# Altium integrated library National Semiconductor MiscPower.IntLib: 1552 symbols (part 16 of 43)
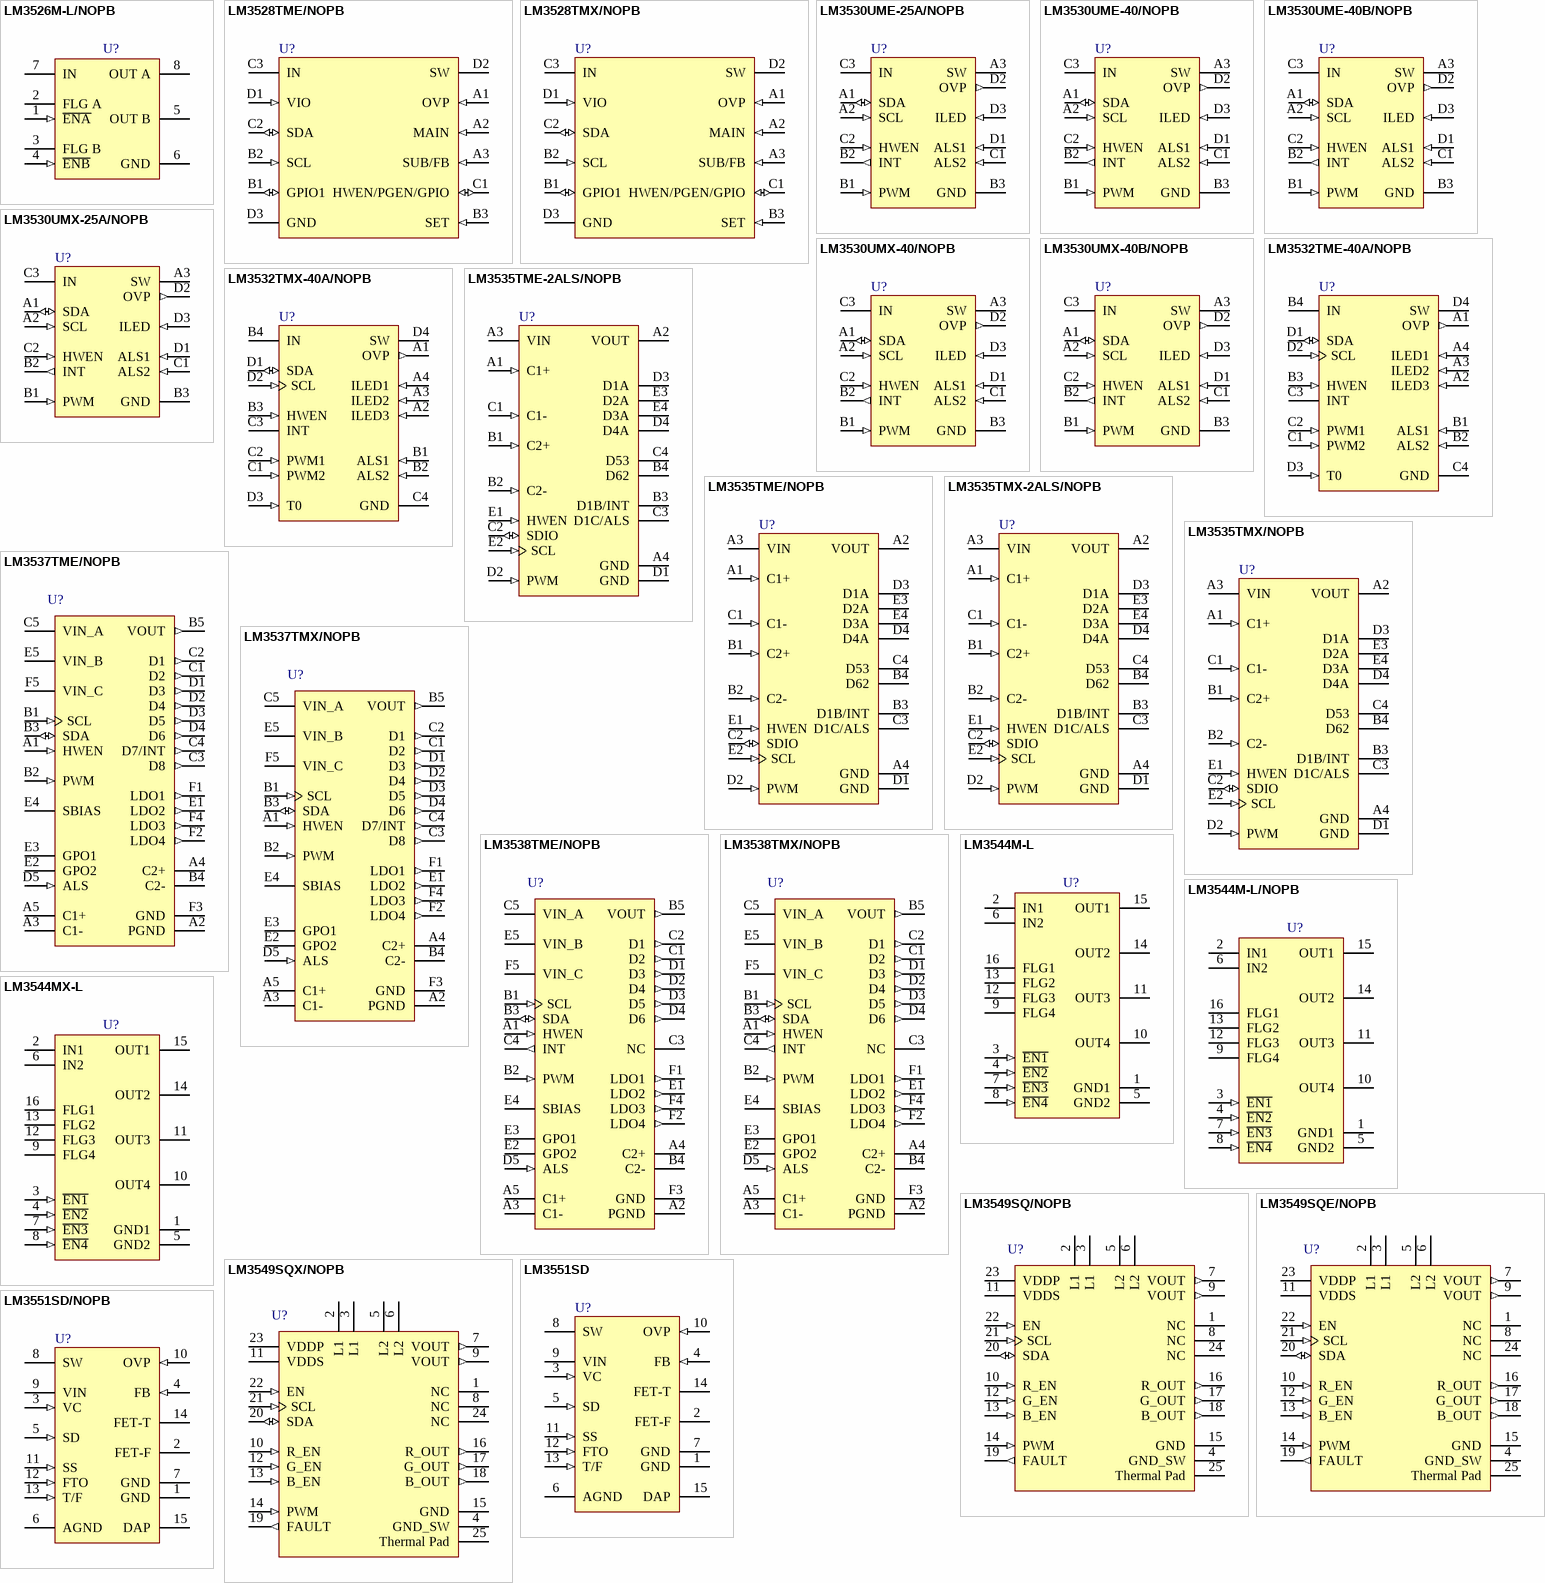
[diagram p72: symbols LM3526M-L/NOPB to LM3551SD/NOPB]

## LM3535TMX-2ALS/NOPB
designator U?
Multi-Display LED Driver with Ambient Light Sensing and Dynamic Backlight Control Compatibility, 20 pin MICRO SMD; PartNumber: LM3535TMX-2ALS/NOPB; Manufacturer: National Semiconductor; PackageTopMarking: XYTT*I 2ALS; PowerWise: N; CompType: MiscPower; High-Reliability: Y; DatasheetVersion: Aug-2010; PackageVersion: revD, 2007; PackageReference: TMD20AAA; PackageDescription: Thin Micro SMD, 20 Bump, 0.4mm Pitch; RoHS: Y; PinCount: 20; ComponentLink1Description: Manufacturer URL; ComponentLink1URL: http://www.national.com/; ComponentLink2Description: LM3535 Datasheet; ComponentLink2URL: http://www.national.com/ds/LM/LM3535.pdf; ComponentLink3Description: LM3535 Web Page; ComponentLink3URL: http://www.national.com/pf/LM/LM3535.html; ComponentLink4Description: TMD20AAA Package Page; ComponentLink4URL: http://www.national.com/packaging/folders/tmd20aaa.html
footprint TMD20AAA (Micro SMD, 20-Leads, Body 2.02x1.62mm, Pitch 0.4mm, NSC Recommended)
pins: A1 C1+ (in), A2 VOUT (power), A3 VIN (power), A4 GND (power), B1 C2+ (in), B2 C2- (in), B3 D1B/INT (oc), B4 D62 (oc), C1 C1- (in), C2 SDIO (io), C3 D1C/ALS (oc), C4 D53 (oc), D1 GND (power), D2 PWM (in), D3 D1A (oc), D4 D4A (oc), E1 HWEN (in), E2 SCL (in), E3 D2A (oc), E4 D3A (oc)

## LM3535TMX/NOPB
designator U?
Multi-Display LED Driver with Ambient Light Sensing and Dynamic Backlight Control Compatibility, 20 pin MICRO SMD; PartNumber: LM3535TMX/NOPB; Manufacturer: National Semiconductor; PackageTopMarking: XYTT*I 3535; PowerWise: N; CompType: MiscPower; High-Reliability: Y; DatasheetVersion: Aug-2010; PackageVersion: revD, 2007; PackageReference: TMD20AAA; PackageDescription: Thin Micro SMD, 20 Bump, 0.4mm Pitch; RoHS: Y; PinCount: 20; ComponentLink1Description: Manufacturer URL; ComponentLink1URL: http://www.national.com/; ComponentLink2Description: LM3535 Datasheet; ComponentLink2URL: http://www.national.com/ds/LM/LM3535.pdf; ComponentLink3Description: LM3535 Web Page; ComponentLink3URL: http://www.national.com/pf/LM/LM3535.html; ComponentLink4Description: TMD20AAA Package Page; ComponentLink4URL: http://www.national.com/packaging/folders/tmd20aaa.html
footprint TMD20AAA (Micro SMD, 20-Leads, Body 2.02x1.62mm, Pitch 0.4mm, NSC Recommended)
pins: A1 C1+ (in), A2 VOUT (power), A3 VIN (power), A4 GND (power), B1 C2+ (in), B2 C2- (in), B3 D1B/INT (oc), B4 D62 (oc), C1 C1- (in), C2 SDIO (io), C3 D1C/ALS (oc), C4 D53 (oc), D1 GND (power), D2 PWM (in), D3 D1A (oc), D4 D4A (oc), E1 HWEN (in), E2 SCL (in), E3 D2A (oc), E4 D3A (oc)

## LM3537TME/NOPB
designator U?
8-Channel WLED Driver with Four Integrated LDOs, 30-pin Micro SMD, 250 Reel; PartNumber: LM3537TME/NOPB; Manufacturer: National Semiconductor; PackageTopMarking: XYTT*I 3537; PowerWise: N; CompType: MiscPower; High-Reliability: Y; DatasheetVersion: Oct-2011; PackageVersion: revB, Dec-2007; PackageReference: TMD30AEA; PackageDescription: Thin Micro SMD, 30 Bump, 2.52 x 2.02 x 0.60 mm Body, 0.4mm Pitch; RoHS: Y; PinCount: 30; ComponentLink1Description: Manufacturer URL; ComponentLink1URL: http://www.national.com/; ComponentLink2Description: LM3537 Datasheet; ComponentLink2URL: http://www.national.com/ds/LM/LM3537.pdf; ComponentLink3Description: LM3537 Web Page; ComponentLink3URL: http://www.national.com/pf/LM/LM3537.html; ComponentLink4Description: TMD30AEA Package Page; ComponentLink4URL: http://www.national.com/packaging/folders/tmd30aea.html
footprint TMD30AEA (Micro SMD, 30-Leads, Body 2.52x2.02mm, Pitch 0.4mm, NSC Recommended)
pins: A1 HWEN (in), A2 PGND (power), A3 C1-, A4 C2+, A5 C1+, B1 SCL (in), B2 PWM (in), B3 SDA (io), B4 C2-, B5 VOUT (out), C1 D2 (out), C2 D1 (out), C3 D8 (out), C4 D7/INT (out), C5 VIN_A (power), D1 D3 (out), D2 D4 (out), D3 D5 (out), D4 D6 (out), D5 ALS (in), E1 LDO2 (out), E2 GPO2 (oc), E3 GPO1 (oc), E4 SBIAS (power), E5 VIN_B (power), F1 LDO1 (out), F2 LDO4 (out), F3 GND (power), F4 LDO3 (out), F5 VIN_C (power)

## LM3537TMX/NOPB
designator U?
8-Channel WLED Driver with Four Integrated LDOs, 30-pin Micro SMD, 3000 Reel; PartNumber: LM3537TMX/NOPB; Manufacturer: National Semiconductor; PackageTopMarking: XYTT*I 3537; PowerWise: N; CompType: MiscPower; High-Reliability: Y; DatasheetVersion: Oct-2011; PackageVersion: revB, Dec-2007; PackageReference: TMD30AEA; PackageDescription: Thin Micro SMD, 30 Bump, 2.52 x 2.02 x 0.60 mm Body, 0.4mm Pitch; RoHS: Y; PinCount: 30; ComponentLink1Description: Manufacturer URL; ComponentLink1URL: http://www.national.com/; ComponentLink2Description: LM3537 Datasheet; ComponentLink2URL: http://www.national.com/ds/LM/LM3537.pdf; ComponentLink3Description: LM3537 Web Page; ComponentLink3URL: http://www.national.com/pf/LM/LM3537.html; ComponentLink4Description: TMD30AEA Package Page; ComponentLink4URL: http://www.national.com/packaging/folders/tmd30aea.html
footprint TMD30AEA (Micro SMD, 30-Leads, Body 2.52x2.02mm, Pitch 0.4mm, NSC Recommended)
pins: A1 HWEN (in), A2 PGND (power), A3 C1-, A4 C2+, A5 C1+, B1 SCL (in), B2 PWM (in), B3 SDA (io), B4 C2-, B5 VOUT (out), C1 D2 (out), C2 D1 (out), C3 D8 (out), C4 D7/INT (out), C5 VIN_A (power), D1 D3 (out), D2 D4 (out), D3 D5 (out), D4 D6 (out), D5 ALS (in), E1 LDO2 (out), E2 GPO2 (oc), E3 GPO1 (oc), E4 SBIAS (power), E5 VIN_B (power), F1 LDO1 (out), F2 LDO4 (out), F3 GND (power), F4 LDO3 (out), F5 VIN_C (power)

## LM3538TME/NOPB
designator U?
6-Channel WLED Driver with Four Integrated LDOs, 30-pin Micro SMD, 250 Reel; PartNumber: LM3538TME/NOPB; Manufacturer: National Semiconductor; PackageTopMarking: XYTT*I 3538; PowerWise: N; CompType: MiscPower; High-Reliability: Y; DatasheetVersion: Jun-2011; PackageVersion: revB, Dec-2007; PackageReference: TMD30AEA; PackageDescription: Thin Micro SMD, 30 Bump, 2.52 x 2.02 x 0.60 mm Body, 0.4mm Pitch; RoHS: Y; PinCount: 30; ComponentLink1Description: Manufacturer URL; ComponentLink1URL: http://www.national.com/; ComponentLink2Description: LM3538 Datasheet; ComponentLink2URL: http://www.national.com/ds/LM/LM3538.pdf; ComponentLink3Description: LM3538 Web Page; ComponentLink3URL: http://www.national.com/pf/LM/LM3538.html; ComponentLink4Description: TMD30AEA Package Page; ComponentLink4URL: http://www.national.com/packaging/folders/tmd30aea.html
footprint TMD30AEA (Micro SMD, 30-Leads, Body 2.52x2.02mm, Pitch 0.4mm, NSC Recommended)
pins: A1 HWEN (in), A2 PGND (power), A3 C1-, A4 C2+, A5 C1+, B1 SCL (in), B2 PWM (in), B3 SDA (io), B4 C2-, B5 VOUT (out), C1 D2 (out), C2 D1 (out), C3 NC, C4 INT (out), C5 VIN_A (power), D1 D3 (out), D2 D4 (out), D3 D5 (out), D4 D6 (out), D5 ALS (in), E1 LDO2 (out), E2 GPO2 (oc), E3 GPO1 (oc), E4 SBIAS (power), E5 VIN_B (power), F1 LDO1 (out), F2 LDO4 (out), F3 GND (power), F4 LDO3 (out), F5 VIN_C (power)

## LM3538TMX/NOPB
designator U?
6-Channel WLED Driver with Four Integrated LDOs, 30-pin Micro SMD, 3000 Reel; PartNumber: LM3538TMX/NOPB; Manufacturer: National Semiconductor; PackageTopMarking: XYTT*I 3538; PowerWise: N; CompType: MiscPower; High-Reliability: Y; DatasheetVersion: Jun-2011; PackageVersion: revB, Dec-2007; PackageReference: TMD30AEA; PackageDescription: Thin Micro SMD, 30 Bump, 2.52 x 2.02 x 0.60 mm Body, 0.4mm Pitch; RoHS: Y; PinCount: 30; ComponentLink1Description: Manufacturer URL; ComponentLink1URL: http://www.national.com/; ComponentLink2Description: LM3538 Datasheet; ComponentLink2URL: http://www.national.com/ds/LM/LM3538.pdf; ComponentLink3Description: LM3538 Web Page; ComponentLink3URL: http://www.national.com/pf/LM/LM3538.html; ComponentLink4Description: TMD30AEA Package Page; ComponentLink4URL: http://www.national.com/packaging/folders/tmd30aea.html
footprint TMD30AEA (Micro SMD, 30-Leads, Body 2.52x2.02mm, Pitch 0.4mm, NSC Recommended)
pins: A1 HWEN (in), A2 PGND (power), A3 C1-, A4 C2+, A5 C1+, B1 SCL (in), B2 PWM (in), B3 SDA (io), B4 C2-, B5 VOUT (out), C1 D2 (out), C2 D1 (out), C3 NC, C4 INT (out), C5 VIN_A (power), D1 D3 (out), D2 D4 (out), D3 D5 (out), D4 D6 (out), D5 ALS (in), E1 LDO2 (out), E2 GPO2 (oc), E3 GPO1 (oc), E4 SBIAS (power), E5 VIN_B (power), F1 LDO1 (out), F2 LDO4 (out), F3 GND (power), F4 LDO3 (out), F5 VIN_C (power)

## LM3544M-L
designator U?
Quad Port USB Power Distribution Switch and Over-Current Protection, 16-pin Narrow SOIC; PartNumber: LM3544M-L; Manufacturer: National Semiconductor; PackageTopMarking: NSUZXYTTE#*LM3544M-L; PowerWise: N; CompType: MiscPower; High-Reliability: Y; DatasheetVersion: Apr-2005; PackageVersion: revJ, Aug-1995; PackageReference: M16A; PackageDescription: Molded Package, SO, .150in Wide, 16 Lead; RoHS: N; PinCount: 16; Code_JEDEC: MS-012-AC; Code_IPC: SOIC127P600-16; ComponentLink1Description: Manufacturer URL; ComponentLink1URL: http://www.national.com/; ComponentLink2Description: LM3544 Datasheet; ComponentLink2URL: http://www.national.com/ds/LM/LM3544.pdf; ComponentLink3Description: LM3544 Web Page; ComponentLink3URL: http://www.national.com/pf/LM/LM3544.html; ComponentLink4Description: M16A Package Page; ComponentLink4URL: http://www.national.com/packaging/folders/m16a.html
footprint M16A_N (SOIC, 16-Leads, Body 9.9x3.9mm, Pitch 1.27mm, IPC Medium Density)
footprint M16A_L (SOIC, 16-Leads, Body 9.9x3.9mm, Pitch 1.27mm, IPC High Density)
footprint M16A_M (SOIC, 16-Leads, Body 9.9x3.9mm, Pitch 1.27mm, IPC Low Density)
pins: 1 GND1 (power), 2 IN1 (power), 3 ~{EN1} (in), 4 ~{EN2} (in), 5 GND2 (power), 6 IN2 (power), 7 ~{EN3} (in), 8 ~{EN4} (in), 9 FLG4 (oc), 10 OUT4 (power), 11 OUT3 (power), 12 FLG3 (oc), 13 FLG2 (oc), 14 OUT2 (power), 15 OUT1 (power), 16 FLG1 (oc)

## LM3544M-L/NOPB
designator U?
Quad Port USB Power Distribution Switch and Over-Current Protection, 16-pin Narrow SOIC, Pb-Free; PartNumber: LM3544M-L/NOPB; Manufacturer: National Semiconductor; PackageTopMarking: NSUZXYTTE#*LM3544M-L; PowerWise: N; CompType: MiscPower; High-Reliability: Y; DatasheetVersion: Apr-2005; PackageVersion: revJ, Aug-1995; PackageReference: M16A; PackageDescription: Molded Package, SO, .150in Wide, 16 Lead; RoHS: Y; PinCount: 16; Code_JEDEC: MS-012-AC; Code_IPC: SOIC127P600-16; ComponentLink1Description: Manufacturer URL; ComponentLink1URL: http://www.national.com/; ComponentLink2Description: LM3544 Datasheet; ComponentLink2URL: http://www.national.com/ds/LM/LM3544.pdf; ComponentLink3Description: LM3544 Web Page; ComponentLink3URL: http://www.national.com/pf/LM/LM3544.html; ComponentLink4Description: M16A Package Page; ComponentLink4URL: http://www.national.com/packaging/folders/m16a.html
footprint M16A_N (SOIC, 16-Leads, Body 9.9x3.9mm, Pitch 1.27mm, IPC Medium Density)
footprint M16A_L (SOIC, 16-Leads, Body 9.9x3.9mm, Pitch 1.27mm, IPC High Density)
footprint M16A_M (SOIC, 16-Leads, Body 9.9x3.9mm, Pitch 1.27mm, IPC Low Density)
pins: 1 GND1 (power), 2 IN1 (power), 3 ~{EN1} (in), 4 ~{EN2} (in), 5 GND2 (power), 6 IN2 (power), 7 ~{EN3} (in), 8 ~{EN4} (in), 9 FLG4 (oc), 10 OUT4 (power), 11 OUT3 (power), 12 FLG3 (oc), 13 FLG2 (oc), 14 OUT2 (power), 15 OUT1 (power), 16 FLG1 (oc)

## LM3544MX-L
designator U?
Quad Port USB Power Distribution Switch and Over-Current Protection, 16-pin Narrow SOIC; PartNumber: LM3544MX-L; Manufacturer: National Semiconductor; PackageTopMarking: NSUZXYTTE#*LM3544M-L; PowerWise: N; CompType: MiscPower; High-Reliability: Y; DatasheetVersion: Apr-2005; PackageVersion: revJ, Aug-1995; PackageReference: M16A; PackageDescription: Molded Package, SO, .150in Wide, 16 Lead; RoHS: N; PinCount: 16; Code_JEDEC: MS-012-AC; Code_IPC: SOIC127P600-16; ComponentLink1Description: Manufacturer URL; ComponentLink1URL: http://www.national.com/; ComponentLink2Description: LM3544 Datasheet; ComponentLink2URL: http://www.national.com/ds/LM/LM3544.pdf; ComponentLink3Description: LM3544 Web Page; ComponentLink3URL: http://www.national.com/pf/LM/LM3544.html; ComponentLink4Description: M16A Package Page; ComponentLink4URL: http://www.national.com/packaging/folders/m16a.html
footprint M16A_N (SOIC, 16-Leads, Body 9.9x3.9mm, Pitch 1.27mm, IPC Medium Density)
footprint M16A_L (SOIC, 16-Leads, Body 9.9x3.9mm, Pitch 1.27mm, IPC High Density)
footprint M16A_M (SOIC, 16-Leads, Body 9.9x3.9mm, Pitch 1.27mm, IPC Low Density)
pins: 1 GND1 (power), 2 IN1 (power), 3 ~{EN1} (in), 4 ~{EN2} (in), 5 GND2 (power), 6 IN2 (power), 7 ~{EN3} (in), 8 ~{EN4} (in), 9 FLG4 (oc), 10 OUT4 (power), 11 OUT3 (power), 12 FLG3 (oc), 13 FLG2 (oc), 14 OUT2 (power), 15 OUT1 (power), 16 FLG1 (oc)

## LM3549SQ/NOPB
designator U?
High Power Sequential LED Driver, 24 pin LLP; PartNumber: LM3549SQ/NOPB; Manufacturer: National Semiconductor; PackageTopMarking: NS*UZXYTT*L3549SQ; PowerWise: N; CompType: MiscPower; High-Reliability: Y; DatasheetVersion: Aug-2010; PackageVersion: revB, Aug-2003; PackageReference: SQA24A; PackageDescription: LLP, Plastic, Quad, 4 x 4 x 0.8mm Body, 24 Lead, 0.5mm Pitch, No Pullback; RoHS: Y; PinCount: 24; Code_JEDEC: MO-220-WGGD-6; ComponentLink1Description: Manufacturer URL; ComponentLink1URL: http://www.national.com/; ComponentLink2Description: LM3549 Datasheet; ComponentLink2URL: http://www.national.com/ds/LM/LM3549.pdf; ComponentLink3Description: LM3549 Web Page; ComponentLink3URL: http://www.national.com/pf/LM/LM3549.html; ComponentLink4Description: SQA24A Package Page; ComponentLink4URL: http://www.national.com/packaging/folders/sqa24a.html
footprint SQA24A (QFN, 24-Leads, Body 4x4mm, Pitch 0.5mm, Thermal Pad 2.7x2.7mm, NSC Recommended)
pins: 1 NC, 2 L1, 3 L1, 4 GND_SW (power), 5 L2, 6 L2, 7 VOUT (out), 8 NC, 9 VOUT (out), 10 R_EN (in), 11 VDDS (power), 12 G_EN (in), 13 B_EN (in), 14 PWM (in), 15 GND (power), 16 R_OUT (out), 17 G_OUT (out), 18 B_OUT (out), 19 FAULT (out), 20 SDA (io), 21 SCL (in), 22 EN (in), 23 VDDP (power), 24 NC, 25 Thermal Pad (power)

## LM3549SQE/NOPB
designator U?
High Power Sequential LED Driver, 24 pin LLP; PartNumber: LM3549SQE/NOPB; Manufacturer: National Semiconductor; PackageTopMarking: NS*UZXYTT*L3549SQ; PowerWise: N; CompType: MiscPower; High-Reliability: Y; DatasheetVersion: Aug-2010; PackageVersion: revB, Aug-2003; PackageReference: SQA24A; PackageDescription: LLP, Plastic, Quad, 4 x 4 x 0.8mm Body, 24 Lead, 0.5mm Pitch, No Pullback; RoHS: Y; PinCount: 24; Code_JEDEC: MO-220-WGGD-6; ComponentLink1Description: Manufacturer URL; ComponentLink1URL: http://www.national.com/; ComponentLink2Description: LM3549 Datasheet; ComponentLink2URL: http://www.national.com/ds/LM/LM3549.pdf; ComponentLink3Description: LM3549 Web Page; ComponentLink3URL: http://www.national.com/pf/LM/LM3549.html; ComponentLink4Description: SQA24A Package Page; ComponentLink4URL: http://www.national.com/packaging/folders/sqa24a.html
footprint SQA24A (QFN, 24-Leads, Body 4x4mm, Pitch 0.5mm, Thermal Pad 2.7x2.7mm, NSC Recommended)
pins: 1 NC, 2 L1, 3 L1, 4 GND_SW (power), 5 L2, 6 L2, 7 VOUT (out), 8 NC, 9 VOUT (out), 10 R_EN (in), 11 VDDS (power), 12 G_EN (in), 13 B_EN (in), 14 PWM (in), 15 GND (power), 16 R_OUT (out), 17 G_OUT (out), 18 B_OUT (out), 19 FAULT (out), 20 SDA (io), 21 SCL (in), 22 EN (in), 23 VDDP (power), 24 NC, 25 Thermal Pad (power)

## LM3549SQX/NOPB
designator U?
High Power Sequential LED Driver, 24 pin LLP; PartNumber: LM3549SQX/NOPB; Manufacturer: National Semiconductor; PackageTopMarking: NS*UZXYTT*L3549SQ; PowerWise: N; CompType: MiscPower; High-Reliability: Y; DatasheetVersion: Aug-2010; PackageVersion: revB, Aug-2003; PackageReference: SQA24A; PackageDescription: LLP, Plastic, Quad, 4 x 4 x 0.8mm Body, 24 Lead, 0.5mm Pitch, No Pullback; RoHS: Y; PinCount: 24; Code_JEDEC: MO-220-WGGD-6; ComponentLink1Description: Manufacturer URL; ComponentLink1URL: http://www.national.com/; ComponentLink2Description: LM3549 Datasheet; ComponentLink2URL: http://www.national.com/ds/LM/LM3549.pdf; ComponentLink3Description: LM3549 Web Page; ComponentLink3URL: http://www.national.com/pf/LM/LM3549.html; ComponentLink4Description: SQA24A Package Page; ComponentLink4URL: http://www.national.com/packaging/folders/sqa24a.html
footprint SQA24A (QFN, 24-Leads, Body 4x4mm, Pitch 0.5mm, Thermal Pad 2.7x2.7mm, NSC Recommended)
pins: 1 NC, 2 L1, 3 L1, 4 GND_SW (power), 5 L2, 6 L2, 7 VOUT (out), 8 NC, 9 VOUT (out), 10 R_EN (in), 11 VDDS (power), 12 G_EN (in), 13 B_EN (in), 14 PWM (in), 15 GND (power), 16 R_OUT (out), 17 G_OUT (out), 18 B_OUT (out), 19 FAULT (out), 20 SDA (io), 21 SCL (in), 22 EN (in), 23 VDDP (power), 24 NC, 25 Thermal Pad (power)

## LM3551SD
designator U?
1A White LED Driver with Flash Timeout Protection, 14-pin LLP; PartNumber: LM3551SD; Manufacturer: National Semiconductor; PackageTopMarking: NS*UZXYTT*L3551SD; PowerWise: Y; CompType: MiscPower; DatasheetVersion: Feb-2006; PackageVersion: revA, Jul-2004; PackageReference: SDA14B; PackageDescription: LLP, Plastic, Dual, 4 x 4 x 0.8mm Body, 14 Lead, 0.5mm Pitch, No Pullback; RoHS: N; PinCount: 14; High-Reliability: Y; ComponentLink1Description: Manufacturer URL; ComponentLink1URL: http://www.national.com/; ComponentLink2Description: LM3551 Datasheet; ComponentLink2URL: http://www.national.com/ds/LM/LM3551.pdf; ComponentLink3Description: LM3551 Web Page; ComponentLink3URL: http://www.national.com/pf/LM/LM3551.html; ComponentLink4Description: SDA14B Package Page; ComponentLink4URL: http://www.national.com/packaging/folders/sda14b.html
footprint SDA14B (SON, 14-Leads, Body 4x4mm, Pitch 0.5mm, NSC Recommended)
pins: 1 GND (power), 2 FET-F (oc), 3 VC (in), 4 FB (in), 5 SD (in), 6 AGND (power), 7 GND (power), 8 SW (power), 9 VIN (power), 10 OVP (in), 11 SS (in), 12 FTO (in), 13 T/F (in), 14 FET-T (oc), 15 DAP (power)

## LM3551SD/NOPB
designator U?
1A White LED Driver with Flash Timeout Protection, 14-pin LLP, Pb-Free; PartNumber: LM3551SD/NOPB; Manufacturer: National Semiconductor; PackageTopMarking: NS*UZXYTT*L3551SD; PowerWise: Y; CompType: MiscPower; DatasheetVersion: Feb-2006; PackageVersion: revA, Jul-2004; PackageReference: SDA14B; PackageDescription: LLP, Plastic, Dual, 4 x 4 x 0.8mm Body, 14 Lead, 0.5mm Pitch, No Pullback; RoHS: Y; PinCount: 14; High-Reliability: Y; ComponentLink1Description: Manufacturer URL; ComponentLink1URL: http://www.national.com/; ComponentLink2Description: LM3551 Datasheet; ComponentLink2URL: http://www.national.com/ds/LM/LM3551.pdf; ComponentLink3Description: LM3551 Web Page; ComponentLink3URL: http://www.national.com/pf/LM/LM3551.html; ComponentLink4Description: SDA14B Package Page; ComponentLink4URL: http://www.national.com/packaging/folders/sda14b.html
footprint SDA14B (SON, 14-Leads, Body 4x4mm, Pitch 0.5mm, NSC Recommended)
pins: 1 GND (power), 2 FET-F (oc), 3 VC (in), 4 FB (in), 5 SD (in), 6 AGND (power), 7 GND (power), 8 SW (power), 9 VIN (power), 10 OVP (in), 11 SS (in), 12 FTO (in), 13 T/F (in), 14 FET-T (oc), 15 DAP (power)

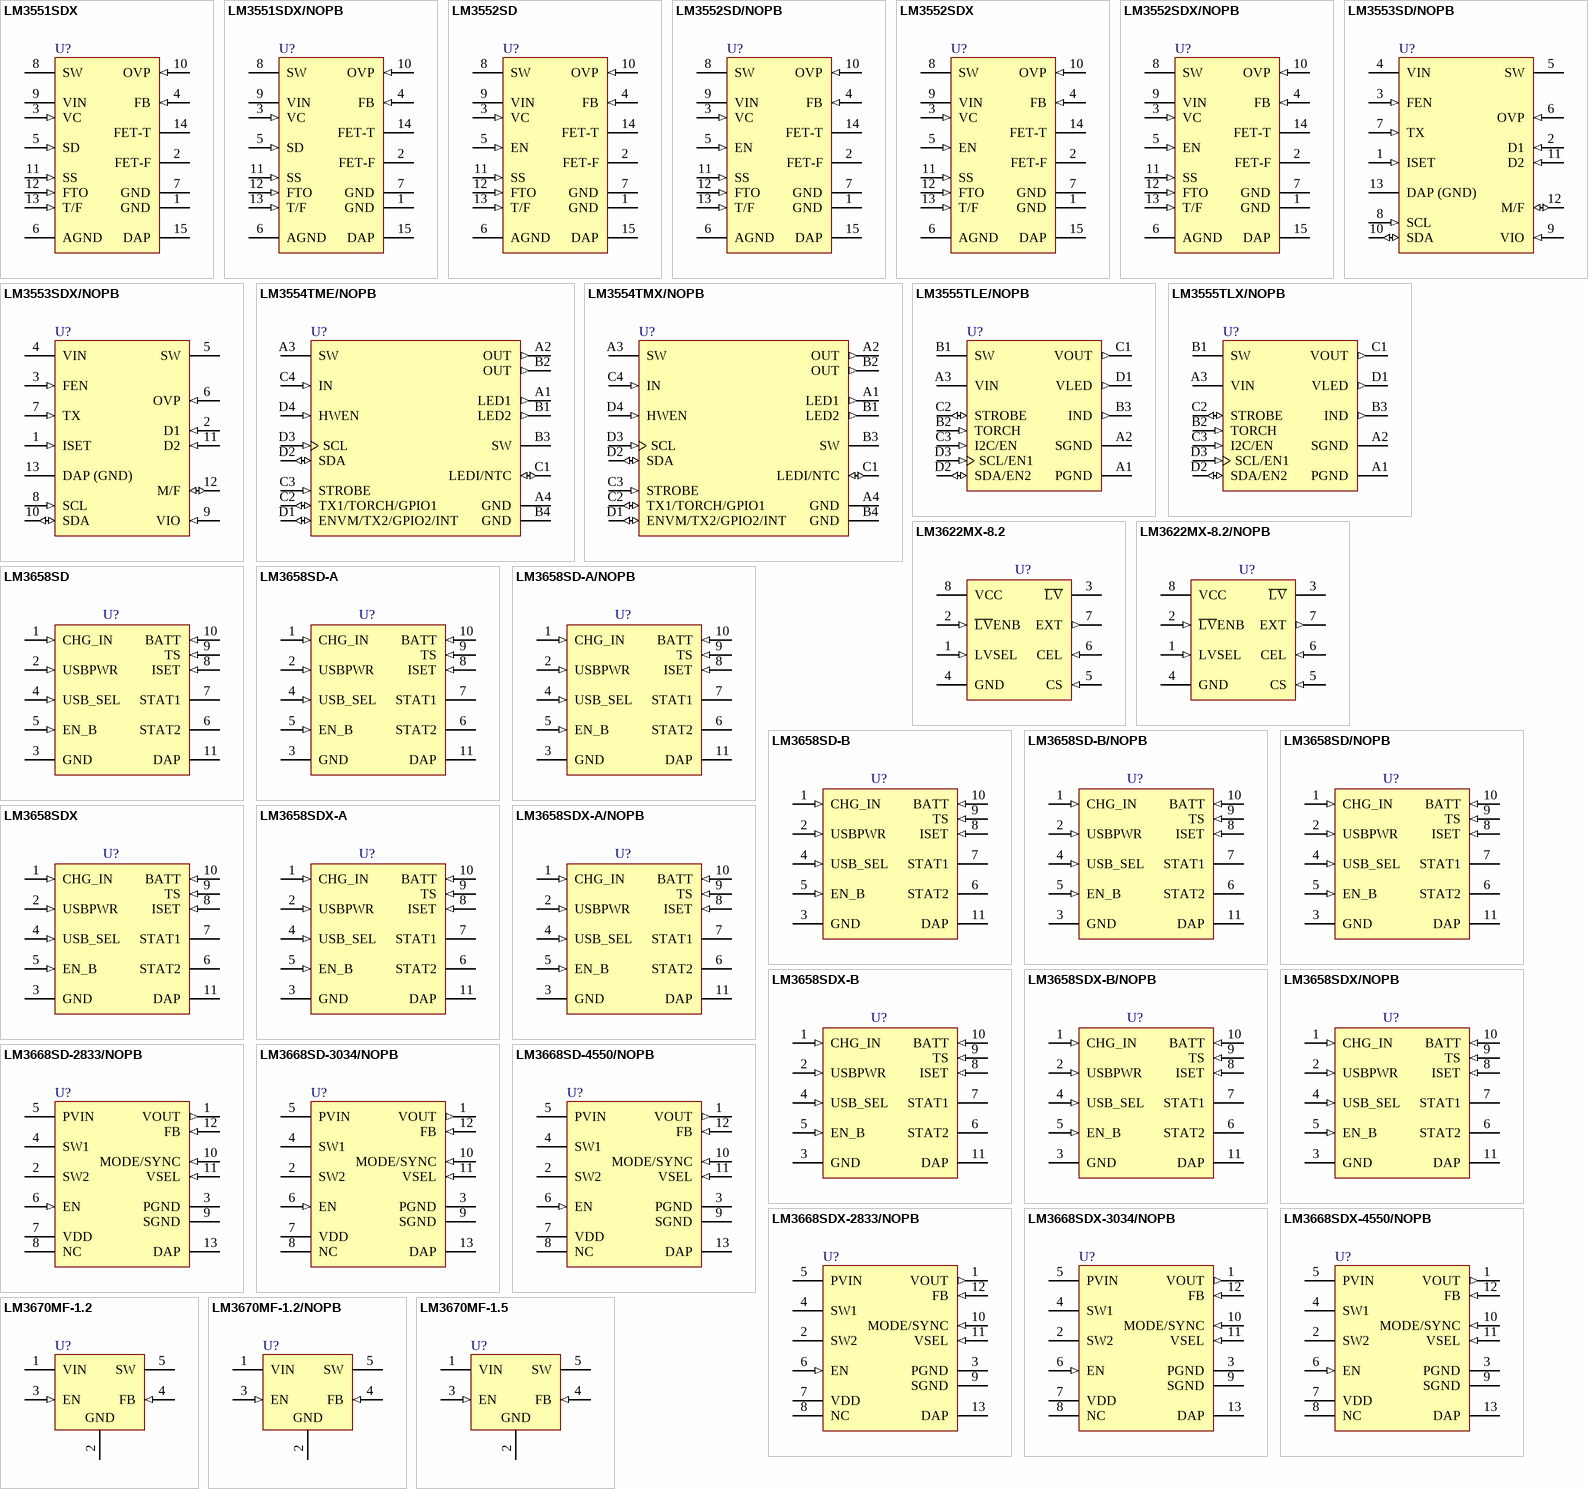
[diagram p18: symbols LM3551SDX to LM3670MF-1.5]

## LM3551SDX
designator U?
1A White LED Driver with Flash Timeout Protection, 14-pin LLP; PartNumber: LM3551SDX; Manufacturer: National Semiconductor; PackageTopMarking: NS*UZXYTT*L3551SD; PowerWise: Y; CompType: MiscPower; DatasheetVersion: Feb-2006; PackageVersion: revA, Jul-2004; PackageReference: SDA14B; PackageDescription: LLP, Plastic, Dual, 4 x 4 x 0.8mm Body, 14 Lead, 0.5mm Pitch, No Pullback; RoHS: N; PinCount: 14; High-Reliability: Y; ComponentLink1Description: Manufacturer URL; ComponentLink1URL: http://www.national.com/; ComponentLink2Description: LM3551 Datasheet; ComponentLink2URL: http://www.national.com/ds/LM/LM3551.pdf; ComponentLink3Description: LM3551 Web Page; ComponentLink3URL: http://www.national.com/pf/LM/LM3551.html; ComponentLink4Description: SDA14B Package Page; ComponentLink4URL: http://www.national.com/packaging/folders/sda14b.html
footprint SDA14B (SON, 14-Leads, Body 4x4mm, Pitch 0.5mm, NSC Recommended)
pins: 1 GND (power), 2 FET-F (oc), 3 VC (in), 4 FB (in), 5 SD (in), 6 AGND (power), 7 GND (power), 8 SW (power), 9 VIN (power), 10 OVP (in), 11 SS (in), 12 FTO (in), 13 T/F (in), 14 FET-T (oc), 15 DAP (power)

## LM3551SDX/NOPB
designator U?
1A White LED Driver with Flash Timeout Protection, 14-pin LLP, Pb-Free; PartNumber: LM3551SDX/NOPB; Manufacturer: National Semiconductor; PackageTopMarking: NS*UZXYTT*L3551SD; PowerWise: Y; CompType: MiscPower; DatasheetVersion: Feb-2006; PackageVersion: revA, Jul-2004; PackageReference: SDA14B; PackageDescription: LLP, Plastic, Dual, 4 x 4 x 0.8mm Body, 14 Lead, 0.5mm Pitch, No Pullback; RoHS: Y; PinCount: 14; High-Reliability: Y; ComponentLink1Description: Manufacturer URL; ComponentLink1URL: http://www.national.com/; ComponentLink2Description: LM3551 Datasheet; ComponentLink2URL: http://www.national.com/ds/LM/LM3551.pdf; ComponentLink3Description: LM3551 Web Page; ComponentLink3URL: http://www.national.com/pf/LM/LM3551.html; ComponentLink4Description: SDA14B Package Page; ComponentLink4URL: http://www.national.com/packaging/folders/sda14b.html
footprint SDA14B (SON, 14-Leads, Body 4x4mm, Pitch 0.5mm, NSC Recommended)
pins: 1 GND (power), 2 FET-F (oc), 3 VC (in), 4 FB (in), 5 SD (in), 6 AGND (power), 7 GND (power), 8 SW (power), 9 VIN (power), 10 OVP (in), 11 SS (in), 12 FTO (in), 13 T/F (in), 14 FET-T (oc), 15 DAP (power)

## LM3552SD
designator U?
1A White LED Driver with Flash Timeout Protection, 14-pin LLP; PartNumber: LM3552SD; Manufacturer: National Semiconductor; PackageTopMarking: NS*UZXYTT*L3552SD; PowerWise: Y; CompType: MiscPower; DatasheetVersion: Feb-2006; PackageVersion: revA, Jul-2004; PackageReference: SDA14B; PackageDescription: LLP, Plastic, Dual, 4 x 4 x 0.8mm Body, 14 Lead, 0.5mm Pitch, No Pullback; RoHS: N; PinCount: 14; High-Reliability: Y; ComponentLink1Description: Manufacturer URL; ComponentLink1URL: http://www.national.com/; ComponentLink2Description: LM3552 Datasheet; ComponentLink2URL: http://www.national.com/ds/LM/LM3552.pdf; ComponentLink3Description: LM3552 Web Page; ComponentLink3URL: http://www.national.com/pf/LM/LM3552.html; ComponentLink4Description: SDA14B Package Page; ComponentLink4URL: http://www.national.com/packaging/folders/sda14b.html
footprint SDA14B (SON, 14-Leads, Body 4x4mm, Pitch 0.5mm, NSC Recommended)
pins: 1 GND (power), 2 FET-F (oc), 3 VC (in), 4 FB (in), 5 EN (in), 6 AGND (power), 7 GND (power), 8 SW (power), 9 VIN (power), 10 OVP (in), 11 SS (in), 12 FTO (in), 13 T/F (in), 14 FET-T (oc), 15 DAP (power)

## LM3552SD/NOPB
designator U?
1A White LED Driver with Flash Timeout Protection, 14-pin LLP, Pb-Free; PartNumber: LM3552SD/NOPB; Manufacturer: National Semiconductor; PackageTopMarking: NS*UZXYTT*L3552SD; PowerWise: Y; CompType: MiscPower; DatasheetVersion: Feb-2006; PackageVersion: revA, Jul-2004; PackageReference: SDA14B; PackageDescription: LLP, Plastic, Dual, 4 x 4 x 0.8mm Body, 14 Lead, 0.5mm Pitch, No Pullback; RoHS: Y; PinCount: 14; High-Reliability: Y; ComponentLink1Description: Manufacturer URL; ComponentLink1URL: http://www.national.com/; ComponentLink2Description: LM3552 Datasheet; ComponentLink2URL: http://www.national.com/ds/LM/LM3552.pdf; ComponentLink3Description: LM3552 Web Page; ComponentLink3URL: http://www.national.com/pf/LM/LM3552.html; ComponentLink4Description: SDA14B Package Page; ComponentLink4URL: http://www.national.com/packaging/folders/sda14b.html
footprint SDA14B (SON, 14-Leads, Body 4x4mm, Pitch 0.5mm, NSC Recommended)
pins: 1 GND (power), 2 FET-F (oc), 3 VC (in), 4 FB (in), 5 EN (in), 6 AGND (power), 7 GND (power), 8 SW (power), 9 VIN (power), 10 OVP (in), 11 SS (in), 12 FTO (in), 13 T/F (in), 14 FET-T (oc), 15 DAP (power)

## LM3552SDX
designator U?
1A White LED Driver with Flash Timeout Protection, 14-pin LLP; PartNumber: LM3552SDX; Manufacturer: National Semiconductor; PackageTopMarking: NS*UZXYTT*L3552SD; PowerWise: Y; CompType: MiscPower; DatasheetVersion: Feb-2006; PackageVersion: revA, Jul-2004; PackageReference: SDA14B; PackageDescription: LLP, Plastic, Dual, 4 x 4 x 0.8mm Body, 14 Lead, 0.5mm Pitch, No Pullback; RoHS: N; PinCount: 14; High-Reliability: Y; ComponentLink1Description: Manufacturer URL; ComponentLink1URL: http://www.national.com/; ComponentLink2Description: LM3552 Datasheet; ComponentLink2URL: http://www.national.com/ds/LM/LM3552.pdf; ComponentLink3Description: LM3552 Web Page; ComponentLink3URL: http://www.national.com/pf/LM/LM3552.html; ComponentLink4Description: SDA14B Package Page; ComponentLink4URL: http://www.national.com/packaging/folders/sda14b.html
footprint SDA14B (SON, 14-Leads, Body 4x4mm, Pitch 0.5mm, NSC Recommended)
pins: 1 GND (power), 2 FET-F (oc), 3 VC (in), 4 FB (in), 5 EN (in), 6 AGND (power), 7 GND (power), 8 SW (power), 9 VIN (power), 10 OVP (in), 11 SS (in), 12 FTO (in), 13 T/F (in), 14 FET-T (oc), 15 DAP (power)

## LM3552SDX/NOPB
designator U?
1A White LED Driver with Flash Timeout Protection, 14-pin LLP, Pb-Free; PartNumber: LM3552SDX/NOPB; Manufacturer: National Semiconductor; PackageTopMarking: NS*UZXYTT*L3552SD; PowerWise: Y; CompType: MiscPower; DatasheetVersion: Feb-2006; PackageVersion: revA, Jul-2004; PackageReference: SDA14B; PackageDescription: LLP, Plastic, Dual, 4 x 4 x 0.8mm Body, 14 Lead, 0.5mm Pitch, No Pullback; RoHS: Y; PinCount: 14; High-Reliability: Y; ComponentLink1Description: Manufacturer URL; ComponentLink1URL: http://www.national.com/; ComponentLink2Description: LM3552 Datasheet; ComponentLink2URL: http://www.national.com/ds/LM/LM3552.pdf; ComponentLink3Description: LM3552 Web Page; ComponentLink3URL: http://www.national.com/pf/LM/LM3552.html; ComponentLink4Description: SDA14B Package Page; ComponentLink4URL: http://www.national.com/packaging/folders/sda14b.html
footprint SDA14B (SON, 14-Leads, Body 4x4mm, Pitch 0.5mm, NSC Recommended)
pins: 1 GND (power), 2 FET-F (oc), 3 VC (in), 4 FB (in), 5 EN (in), 6 AGND (power), 7 GND (power), 8 SW (power), 9 VIN (power), 10 OVP (in), 11 SS (in), 12 FTO (in), 13 T/F (in), 14 FET-T (oc), 15 DAP (power)

## LM3553SD/NOPB
designator U?
1.2A Dual Flash LED Driver System with I2C Compatible Interface, 12-pin LLP, Pb-Free; PartNumber: LM3553SD/NOPB; Manufacturer: National Semiconductor; PackageTopMarking: ZXYTT*L3553; PowerWise: Y; CompType: MiscPower; DatasheetVersion: Mar-2008; PackageVersion: revB, Jul-2008; PackageReference: SDF12A; PackageDescription: LLP, Plastic, Dual, 3 x 3 x 0.8mm Body, 12 Lead, 0.4mm Pitch, No Pullback; RoHS: Y; PinCount: 12; High-Reliability: Y; ComponentLink1Description: Manufacturer URL; ComponentLink1URL: http://www.national.com/; ComponentLink2Description: LM3553 Datasheet; ComponentLink2URL: http://www.national.com/ds/LM/LM3553.pdf; ComponentLink3Description: LM3553 Web Page; ComponentLink3URL: http://www.national.com/pf/LM/LM3553.html; ComponentLink4Description: SDF12A Package Page; ComponentLink4URL: http://www.national.com/packaging/folders/sdf12a.html
footprint SDF12A (SON, 12-Leads, Body 3x3mm, Pitch 0.4mm, NSC Recommended)
pins: 1 ISET (in), 2 D1 (in), 3 FEN (in), 4 VIN (power), 5 SW (power), 6 OVP (in), 7 TX (in), 8 SCL (in), 9 VIO (in), 10 SDA (io), 11 D2 (in), 12 M/F (io), 13 DAP (GND) (power)

## LM3553SDX/NOPB
designator U?
1.2A Dual Flash LED Driver System with I2C Compatible Interface, 12-pin LLP, Pb-Free; PartNumber: LM3553SDX/NOPB; Manufacturer: National Semiconductor; PackageTopMarking: ZXYTT*L3553; PowerWise: Y; CompType: MiscPower; DatasheetVersion: Mar-2008; PackageVersion: revB, Jul-2008; PackageReference: SDF12A; PackageDescription: LLP, Plastic, Dual, 3 x 3 x 0.8mm Body, 12 Lead, 0.4mm Pitch, No Pullback; RoHS: Y; PinCount: 12; High-Reliability: Y; ComponentLink1Description: Manufacturer URL; ComponentLink1URL: http://www.national.com/; ComponentLink2Description: LM3553 Datasheet; ComponentLink2URL: http://www.national.com/ds/LM/LM3553.pdf; ComponentLink3Description: LM3553 Web Page; ComponentLink3URL: http://www.national.com/pf/LM/LM3553.html; ComponentLink4Description: SDF12A Package Page; ComponentLink4URL: http://www.national.com/packaging/folders/sdf12a.html
footprint SDF12A (SON, 12-Leads, Body 3x3mm, Pitch 0.4mm, NSC Recommended)
pins: 1 ISET (in), 2 D1 (in), 3 FEN (in), 4 VIN (power), 5 SW (power), 6 OVP (in), 7 TX (in), 8 SCL (in), 9 VIO (in), 10 SDA (io), 11 D2 (in), 12 M/F (io), 13 DAP (GND) (power)

## LM3554TME/NOPB
designator U?
1.2A Dual Flash LED Driver System with I2C Compatible Interface, 16-pin Micro SMD, 250 Reel; PartNumber: LM3554TME/NOPB; Manufacturer: National Semiconductor; PackageTopMarking: XYTT*I SF; PowerWise: N; CompType: MiscPower; High-Reliability: Y; DatasheetVersion: Apr-2011; PackageVersion: revA, 2009; PackageReference: TMD16CCA; PackageDescription: Thin Micro SMD, 16 Bump, 0.4mm Pitch; RoHS: Y; PinCount: 16; ComponentLink1Description: Manufacturer URL; ComponentLink1URL: http://www.national.com/; ComponentLink2Description: LM3554 Datasheet; ComponentLink2URL: http://www.national.com/ds/LM/LM3554.pdf; ComponentLink3Description: LM3554 Web Page; ComponentLink3URL: http://www.national.com/pf/LM/LM3554.html; ComponentLink4Description: TMD16CCA Package Page; ComponentLink4URL: http://www.national.com/packaging/folders/tmd16cca.html
footprint TMD16CCA (Micro SMD, 16-Leads, Body 1.7x1.7mm, Pitch 0.4mm, NSC Recommended)
pins: A1 LED1 (out), A2 OUT (out), A3 SW, A4 GND (power), B1 LED2 (out), B2 OUT (out), B3 SW, B4 GND (power), C1 LEDI/NTC (io), C2 TX1/TORCH/GPIO1 (io), C3 STROBE (in), C4 IN (in), D1 ENVM/TX2/GPIO2/INT (io), D2 SDA (io), D3 SCL (in), D4 HWEN (in)

## LM3554TMX/NOPB
designator U?
1.2A Dual Flash LED Driver System with I2C Compatible Interface, 16-pin Micro SMD, 3000 Reel; PartNumber: LM3554TMX/NOPB; Manufacturer: National Semiconductor; PackageTopMarking: XYTT*I SF; PowerWise: N; CompType: MiscPower; High-Reliability: Y; DatasheetVersion: Apr-2011; PackageVersion: revA, 2009; PackageReference: TMD16CCA; PackageDescription: Thin Micro SMD, 16 Bump, 0.4mm Pitch; RoHS: Y; PinCount: 16; ComponentLink1Description: Manufacturer URL; ComponentLink1URL: http://www.national.com/; ComponentLink2Description: LM3554 Datasheet; ComponentLink2URL: http://www.national.com/ds/LM/LM3554.pdf; ComponentLink3Description: LM3554 Web Page; ComponentLink3URL: http://www.national.com/pf/LM/LM3554.html; ComponentLink4Description: TMD16CCA Package Page; ComponentLink4URL: http://www.national.com/packaging/folders/tmd16cca.html
footprint TMD16CCA (Micro SMD, 16-Leads, Body 1.7x1.7mm, Pitch 0.4mm, NSC Recommended)
pins: A1 LED1 (out), A2 OUT (out), A3 SW, A4 GND (power), B1 LED2 (out), B2 OUT (out), B3 SW, B4 GND (power), C1 LEDI/NTC (io), C2 TX1/TORCH/GPIO1 (io), C3 STROBE (in), C4 IN (in), D1 ENVM/TX2/GPIO2/INT (io), D2 SDA (io), D3 SCL (in), D4 HWEN (in)

## LM3555TLE/NOPB
designator U?
Synchronous Boost Converter with 500 mA High Side LED Driver and Dual-Mode Control Interface, 12-pin Micro SMD, 250 Reel; PartNumber: LM3555TLE/NOPB; Manufacturer: National Semiconductor; PackageTopMarking: XYTT*I 3555; PowerWise: N; CompType: MiscPower; High-Reliability: Y; DatasheetVersion: Apr-2011; PackageVersion: revC, Jan-2004; PackageReference: TLA12BCA; PackageDescription: Thin Micro SMD, 12 Bump (Large), Area Array, 0.5mm Pitch; RoHS: Y; PinCount: 12; Code_JEDEC: MO-211-DE; ComponentLink1Description: Manufacturer URL; ComponentLink1URL: http://www.national.com/; ComponentLink2Description: LM3555 Datasheet; ComponentLink2URL: http://www.national.com/ds/LM/LM3555.pdf; ComponentLink3Description: LM3555 Web Page; ComponentLink3URL: http://www.national.com/pf/LM/LM3555.html; ComponentLink4Description: TLA12BCA Package Page; ComponentLink4URL: http://www.national.com/packaging/folders/tla12bca.html
footprint TLA12BCA (Micro SMD, 12-Leads, Body 2.05x1.54mm, Pitch 0.5mm, NSC Recommended)
pins: A1 PGND (power), A2 SGND (power), A3 VIN (power), B1 SW, B2 TORCH (in), B3 IND (out), C1 VOUT (out), C2 STROBE (io), C3 I2C/EN (in), D1 VLED (out), D2 SDA/EN2 (io), D3 SCL/EN1 (in)

## LM3555TLX/NOPB
designator U?
Synchronous Boost Converter with 500 mA High Side LED Driver and Dual-Mode Control Interface, 12-pin Micro SMD, 3000 Reel; PartNumber: LM3555TLX/NOPB; Manufacturer: National Semiconductor; PackageTopMarking: XYTT*I 3555; PowerWise: N; CompType: MiscPower; High-Reliability: Y; DatasheetVersion: Apr-2011; PackageVersion: revC, Jan-2004; PackageReference: TLA12BCA; PackageDescription: Thin Micro SMD, 12 Bump (Large), Area Array, 0.5mm Pitch; RoHS: Y; PinCount: 12; Code_JEDEC: MO-211-DE; ComponentLink1Description: Manufacturer URL; ComponentLink1URL: http://www.national.com/; ComponentLink2Description: LM3555 Datasheet; ComponentLink2URL: http://www.national.com/ds/LM/LM3555.pdf; ComponentLink3Description: LM3555 Web Page; ComponentLink3URL: http://www.national.com/pf/LM/LM3555.html; ComponentLink4Description: TLA12BCA Package Page; ComponentLink4URL: http://www.national.com/packaging/folders/tla12bca.html
footprint TLA12BCA (Micro SMD, 12-Leads, Body 2.05x1.54mm, Pitch 0.5mm, NSC Recommended)
pins: A1 PGND (power), A2 SGND (power), A3 VIN (power), B1 SW, B2 TORCH (in), B3 IND (out), C1 VOUT (out), C2 STROBE (io), C3 I2C/EN (in), D1 VLED (out), D2 SDA/EN2 (io), D3 SCL/EN1 (in)

## LM3622MX-8.2
designator U?
Lithium-Ion Battery Charger Controller, 8-pin Narrow SOIC; PartNumber: LM3622MX-8.2; Manufacturer: National Semiconductor; PackageTopMarking: NSZXTT*3622*M-8.2; PowerWise: N; CompType: MiscPower; High-Reliability: Y; DatasheetVersion: Feb-2000; PackageVersion: revM, May-2009; PackageReference: M08A; PackageDescription: SOIC Narrow, 4.9 x 3.9 x 1.45mm, 8 Lead, 1.27mm Pitch; RoHS: N; PinCount: 8; Code_JEDEC: MS-012-AA; Code_IPC: SOIC127P600-8; ComponentLink1Description: Manufacturer URL; ComponentLink1URL: http://www.national.com/; ComponentLink2Description: LM3622 Datasheet; ComponentLink2URL: http://www.national.com/ds/LM/LM3622.pdf; ComponentLink3Description: LM3622 Web Page; ComponentLink3URL: http://www.national.com/pf/LM/LM3622.html; ComponentLink4Description: M08A Package Page; ComponentLink4URL: http://www.national.com/packaging/folders/m08a.html
footprint M08A_N (SOIC, 8-Leads, Body 4.9x3.9mm, Pitch 1.27mm, IPC Medium Density)
footprint M08A_L (SOIC, 8-Leads, Body 4.9x3.9mm, Pitch 1.27mm, IPC High Density)
footprint M08A_M (SOIC, 8-Leads, Body 4.9x3.9mm, Pitch 1.27mm, IPC Low Density)
pins: 1 LVSEL (in), 2 ~{LV}ENB (in), 3 ~{LV} (oc), 4 GND (power), 5 CS (in), 6 CEL (in), 7 EXT (out), 8 VCC (power)

## LM3622MX-8.2/NOPB
designator U?
Lithium-Ion Battery Charger Controller, 8-pin Narrow SOIC, Pb-Free; PartNumber: LM3622MX-8.2/NOPB; Manufacturer: National Semiconductor; PackageTopMarking: NSZXTT*3622*M-8.2; PowerWise: N; CompType: MiscPower; High-Reliability: Y; DatasheetVersion: Feb-2000; PackageVersion: revM, May-2009; PackageReference: M08A; PackageDescription: SOIC Narrow, 4.9 x 3.9 x 1.45mm, 8 Lead, 1.27mm Pitch; RoHS: Y; PinCount: 8; Code_JEDEC: MS-012-AA; Code_IPC: SOIC127P600-8; ComponentLink1Description: Manufacturer URL; ComponentLink1URL: http://www.national.com/; ComponentLink2Description: LM3622 Datasheet; ComponentLink2URL: http://www.national.com/ds/LM/LM3622.pdf; ComponentLink3Description: LM3622 Web Page; ComponentLink3URL: http://www.national.com/pf/LM/LM3622.html; ComponentLink4Description: M08A Package Page; ComponentLink4URL: http://www.national.com/packaging/folders/m08a.html
footprint M08A_N (SOIC, 8-Leads, Body 4.9x3.9mm, Pitch 1.27mm, IPC Medium Density)
footprint M08A_L (SOIC, 8-Leads, Body 4.9x3.9mm, Pitch 1.27mm, IPC High Density)
footprint M08A_M (SOIC, 8-Leads, Body 4.9x3.9mm, Pitch 1.27mm, IPC Low Density)
pins: 1 LVSEL (in), 2 ~{LV}ENB (in), 3 ~{LV} (oc), 4 GND (power), 5 CS (in), 6 CEL (in), 7 EXT (out), 8 VCC (power)

## LM3658SD
designator U?
Dual Source USB/AC Li Chemistry Charger IC for Portable Applications, 10-pin LLP; PartNumber: LM3658SD; Manufacturer: National Semiconductor; PackageTopMarking: ZXYTT*L111B; PowerWise: N; CompType: MiscPower; High-Reliability: Y; DatasheetVersion: Nov-2006; PackageVersion: revA, Oct-2003; PackageReference: SDA10A; PackageDescription: LLP, Plastic, Dual, 3 x 3 x 0.8mm Body, 10 Lead, 0.5mm Pitch, No Pullback; RoHS: N; PinCount: 10; ComponentLink1Description: Manufacturer URL; ComponentLink1URL: http://www.national.com/; ComponentLink2Description: LM3658 Datasheet; ComponentLink2URL: http://www.national.com/ds/LM/LM3658.pdf; ComponentLink3Description: LM3658 Web Page; ComponentLink3URL: http://www.national.com/pf/LM/LM3658.html; ComponentLink4Description: SDA10A Package Page; ComponentLink4URL: http://www.national.com/packaging/folders/sda10a.html
footprint SDA10A (SON, 10-Leads, Body 3x3 mm, Pitch 0.5mm, NSC Recommended)
pins: 1 CHG_IN (in), 2 USBPWR (in), 3 GND (power), 4 USB_SEL (in), 5 EN_B (in), 6 STAT2 (oc), 7 STAT1 (oc), 8 ISET (in), 9 TS (in), 10 BATT (in), 11 DAP (power)

## LM3658SD-A
designator U?
Dual Source USB/AC Li Chemistry Charger IC for Portable Applications, 10-pin LLP; PartNumber: LM3658SD-A; Manufacturer: National Semiconductor; PackageTopMarking: ZXYTT*L155B; PowerWise: N; CompType: MiscPower; High-Reliability: Y; DatasheetVersion: Nov-2006; PackageVersion: revA, Oct-2003; PackageReference: SDA10A; PackageDescription: LLP, Plastic, Dual, 3 x 3 x 0.8mm Body, 10 Lead, 0.5mm Pitch, No Pullback; RoHS: Y; PinCount: 10; ComponentLink1Description: Manufacturer URL; ComponentLink1URL: http://www.national.com/; ComponentLink2Description: LM3658 Datasheet; ComponentLink2URL: http://www.national.com/ds/LM/LM3658.pdf; ComponentLink3Description: LM3658 Web Page; ComponentLink3URL: http://www.national.com/pf/LM/LM3658.html; ComponentLink4Description: SDA10A Package Page; ComponentLink4URL: http://www.national.com/packaging/folders/sda10a.html
footprint SDA10A (SON, 10-Leads, Body 3x3 mm, Pitch 0.5mm, NSC Recommended)
pins: 1 CHG_IN (in), 2 USBPWR (in), 3 GND (power), 4 USB_SEL (in), 5 EN_B (in), 6 STAT2 (oc), 7 STAT1 (oc), 8 ISET (in), 9 TS (in), 10 BATT (in), 11 DAP (power)

## LM3658SD-A/NOPB
designator U?
Dual Source USB/AC Li Chemistry Charger IC for Portable Applications, 10-pin LLP, Pb-Free; PartNumber: LM3658SD-A/NOPB; Manufacturer: National Semiconductor; PackageTopMarking: ZXYTT*L155B; PowerWise: N; CompType: MiscPower; High-Reliability: Y; DatasheetVersion: Nov-2006; PackageVersion: revA, Oct-2003; PackageReference: SDA10A; PackageDescription: LLP, Plastic, Dual, 3 x 3 x 0.8mm Body, 10 Lead, 0.5mm Pitch, No Pullback; RoHS: Y; PinCount: 10; ComponentLink1Description: Manufacturer URL; ComponentLink1URL: http://www.national.com/; ComponentLink2Description: LM3658 Datasheet; ComponentLink2URL: http://www.national.com/ds/LM/LM3658.pdf; ComponentLink3Description: LM3658 Web Page; ComponentLink3URL: http://www.national.com/pf/LM/LM3658.html; ComponentLink4Description: SDA10A Package Page; ComponentLink4URL: http://www.national.com/packaging/folders/sda10a.html
footprint SDA10A (SON, 10-Leads, Body 3x3 mm, Pitch 0.5mm, NSC Recommended)
pins: 1 CHG_IN (in), 2 USBPWR (in), 3 GND (power), 4 USB_SEL (in), 5 EN_B (in), 6 STAT2 (oc), 7 STAT1 (oc), 8 ISET (in), 9 TS (in), 10 BATT (in), 11 DAP (power)

## LM3658SD-B
designator U?
Dual Source USB/AC Li Chemistry Charger IC for Portable Applications, 10-pin LLP; PartNumber: LM3658SD-B; Manufacturer: National Semiconductor; PackageTopMarking: ZXYTT*L156B; PowerWise: N; CompType: MiscPower; High-Reliability: Y; DatasheetVersion: Nov-2006; PackageVersion: revA, Oct-2003; PackageReference: SDA10A; PackageDescription: LLP, Plastic, Dual, 3 x 3 x 0.8mm Body, 10 Lead, 0.5mm Pitch, No Pullback; RoHS: N; PinCount: 10; ComponentLink1Description: Manufacturer URL; ComponentLink1URL: http://www.national.com/; ComponentLink2Description: LM3658 Datasheet; ComponentLink2URL: http://www.national.com/ds/LM/LM3658.pdf; ComponentLink3Description: LM3658 Web Page; ComponentLink3URL: http://www.national.com/pf/LM/LM3658.html; ComponentLink4Description: SDA10A Package Page; ComponentLink4URL: http://www.national.com/packaging/folders/sda10a.html
footprint SDA10A (SON, 10-Leads, Body 3x3 mm, Pitch 0.5mm, NSC Recommended)
pins: 1 CHG_IN (in), 2 USBPWR (in), 3 GND (power), 4 USB_SEL (in), 5 EN_B (in), 6 STAT2 (oc), 7 STAT1 (oc), 8 ISET (in), 9 TS (in), 10 BATT (in), 11 DAP (power)

## LM3658SD-B/NOPB
designator U?
Dual Source USB/AC Li Chemistry Charger IC for Portable Applications, 10-pin LLP, Pb-Free; PartNumber: LM3658SD-B/NOPB; Manufacturer: National Semiconductor; PackageTopMarking: ZXYTT*L156B; PowerWise: N; CompType: MiscPower; High-Reliability: Y; DatasheetVersion: Nov-2006; PackageVersion: revA, Oct-2003; PackageReference: SDA10A; PackageDescription: LLP, Plastic, Dual, 3 x 3 x 0.8mm Body, 10 Lead, 0.5mm Pitch, No Pullback; RoHS: Y; PinCount: 10; ComponentLink1Description: Manufacturer URL; ComponentLink1URL: http://www.national.com/; ComponentLink2Description: LM3658 Datasheet; ComponentLink2URL: http://www.national.com/ds/LM/LM3658.pdf; ComponentLink3Description: LM3658 Web Page; ComponentLink3URL: http://www.national.com/pf/LM/LM3658.html; ComponentLink4Description: SDA10A Package Page; ComponentLink4URL: http://www.national.com/packaging/folders/sda10a.html
footprint SDA10A (SON, 10-Leads, Body 3x3 mm, Pitch 0.5mm, NSC Recommended)
pins: 1 CHG_IN (in), 2 USBPWR (in), 3 GND (power), 4 USB_SEL (in), 5 EN_B (in), 6 STAT2 (oc), 7 STAT1 (oc), 8 ISET (in), 9 TS (in), 10 BATT (in), 11 DAP (power)

## LM3658SD/NOPB
designator U?
Dual Source USB/AC Li Chemistry Charger IC for Portable Applications, 10-pin LLP, Pb-Free; PartNumber: LM3658SD/NOPB; Manufacturer: National Semiconductor; PackageTopMarking: ZXYTT*L111B; PowerWise: N; CompType: MiscPower; High-Reliability: Y; DatasheetVersion: Nov-2006; PackageVersion: revA, Oct-2003; PackageReference: SDA10A; PackageDescription: LLP, Plastic, Dual, 3 x 3 x 0.8mm Body, 10 Lead, 0.5mm Pitch, No Pullback; RoHS: Y; PinCount: 10; ComponentLink1Description: Manufacturer URL; ComponentLink1URL: http://www.national.com/; ComponentLink2Description: LM3658 Datasheet; ComponentLink2URL: http://www.national.com/ds/LM/LM3658.pdf; ComponentLink3Description: LM3658 Web Page; ComponentLink3URL: http://www.national.com/pf/LM/LM3658.html; ComponentLink4Description: SDA10A Package Page; ComponentLink4URL: http://www.national.com/packaging/folders/sda10a.html
footprint SDA10A (SON, 10-Leads, Body 3x3 mm, Pitch 0.5mm, NSC Recommended)
pins: 1 CHG_IN (in), 2 USBPWR (in), 3 GND (power), 4 USB_SEL (in), 5 EN_B (in), 6 STAT2 (oc), 7 STAT1 (oc), 8 ISET (in), 9 TS (in), 10 BATT (in), 11 DAP (power)

## LM3658SDX
designator U?
Dual Source USB/AC Li Chemistry Charger IC for Portable Applications, 10-pin LLP; PartNumber: LM3658SDX; Manufacturer: National Semiconductor; PackageTopMarking: ZXYTT*L111B; PowerWise: N; CompType: MiscPower; High-Reliability: Y; DatasheetVersion: Nov-2006; PackageVersion: revA, Oct-2003; PackageReference: SDA10A; PackageDescription: LLP, Plastic, Dual, 3 x 3 x 0.8mm Body, 10 Lead, 0.5mm Pitch, No Pullback; RoHS: N; PinCount: 10; ComponentLink1Description: Manufacturer URL; ComponentLink1URL: http://www.national.com/; ComponentLink2Description: LM3658 Datasheet; ComponentLink2URL: http://www.national.com/ds/LM/LM3658.pdf; ComponentLink3Description: LM3658 Web Page; ComponentLink3URL: http://www.national.com/pf/LM/LM3658.html; ComponentLink4Description: SDA10A Package Page; ComponentLink4URL: http://www.national.com/packaging/folders/sda10a.html
footprint SDA10A (SON, 10-Leads, Body 3x3 mm, Pitch 0.5mm, NSC Recommended)
pins: 1 CHG_IN (in), 2 USBPWR (in), 3 GND (power), 4 USB_SEL (in), 5 EN_B (in), 6 STAT2 (oc), 7 STAT1 (oc), 8 ISET (in), 9 TS (in), 10 BATT (in), 11 DAP (power)

## LM3658SDX-A
designator U?
Dual Source USB/AC Li Chemistry Charger IC for Portable Applications, 10-pin LLP; PartNumber: LM3658SDX-A; Manufacturer: National Semiconductor; PackageTopMarking: ZXYTT*L155B; PowerWise: N; CompType: MiscPower; High-Reliability: Y; DatasheetVersion: Nov-2006; PackageVersion: revA, Oct-2003; PackageReference: SDA10A; PackageDescription: LLP, Plastic, Dual, 3 x 3 x 0.8mm Body, 10 Lead, 0.5mm Pitch, No Pullback; RoHS: N; PinCount: 10; ComponentLink1Description: Manufacturer URL; ComponentLink1URL: http://www.national.com/; ComponentLink2Description: LM3658 Datasheet; ComponentLink2URL: http://www.national.com/ds/LM/LM3658.pdf; ComponentLink3Description: LM3658 Web Page; ComponentLink3URL: http://www.national.com/pf/LM/LM3658.html; ComponentLink4Description: SDA10A Package Page; ComponentLink4URL: http://www.national.com/packaging/folders/sda10a.html
footprint SDA10A (SON, 10-Leads, Body 3x3 mm, Pitch 0.5mm, NSC Recommended)
pins: 1 CHG_IN (in), 2 USBPWR (in), 3 GND (power), 4 USB_SEL (in), 5 EN_B (in), 6 STAT2 (oc), 7 STAT1 (oc), 8 ISET (in), 9 TS (in), 10 BATT (in), 11 DAP (power)

## LM3658SDX-A/NOPB
designator U?
Dual Source USB/AC Li Chemistry Charger IC for Portable Applications, 10-pin LLP, Pb-Free; PartNumber: LM3658SDX-A/NOPB; Manufacturer: National Semiconductor; PackageTopMarking: ZXYTT*L155B; PowerWise: N; CompType: MiscPower; High-Reliability: Y; DatasheetVersion: Nov-2006; PackageVersion: revA, Oct-2003; PackageReference: SDA10A; PackageDescription: LLP, Plastic, Dual, 3 x 3 x 0.8mm Body, 10 Lead, 0.5mm Pitch, No Pullback; RoHS: Y; PinCount: 10; ComponentLink1Description: Manufacturer URL; ComponentLink1URL: http://www.national.com/; ComponentLink2Description: LM3658 Datasheet; ComponentLink2URL: http://www.national.com/ds/LM/LM3658.pdf; ComponentLink3Description: LM3658 Web Page; ComponentLink3URL: http://www.national.com/pf/LM/LM3658.html; ComponentLink4Description: SDA10A Package Page; ComponentLink4URL: http://www.national.com/packaging/folders/sda10a.html
footprint SDA10A (SON, 10-Leads, Body 3x3 mm, Pitch 0.5mm, NSC Recommended)
pins: 1 CHG_IN (in), 2 USBPWR (in), 3 GND (power), 4 USB_SEL (in), 5 EN_B (in), 6 STAT2 (oc), 7 STAT1 (oc), 8 ISET (in), 9 TS (in), 10 BATT (in), 11 DAP (power)

## LM3658SDX-B
designator U?
Dual Source USB/AC Li Chemistry Charger IC for Portable Applications, 10-pin LLP; PartNumber: LM3658SDX-B; Manufacturer: National Semiconductor; PackageTopMarking: ZXYTT*L156B; PowerWise: N; CompType: MiscPower; High-Reliability: Y; DatasheetVersion: Nov-2006; PackageVersion: revA, Oct-2003; PackageReference: SDA10A; PackageDescription: LLP, Plastic, Dual, 3 x 3 x 0.8mm Body, 10 Lead, 0.5mm Pitch, No Pullback; RoHS: N; PinCount: 10; ComponentLink1Description: Manufacturer URL; ComponentLink1URL: http://www.national.com/; ComponentLink2Description: LM3658 Datasheet; ComponentLink2URL: http://www.national.com/ds/LM/LM3658.pdf; ComponentLink3Description: LM3658 Web Page; ComponentLink3URL: http://www.national.com/pf/LM/LM3658.html; ComponentLink4Description: SDA10A Package Page; ComponentLink4URL: http://www.national.com/packaging/folders/sda10a.html
footprint SDA10A (SON, 10-Leads, Body 3x3 mm, Pitch 0.5mm, NSC Recommended)
pins: 1 CHG_IN (in), 2 USBPWR (in), 3 GND (power), 4 USB_SEL (in), 5 EN_B (in), 6 STAT2 (oc), 7 STAT1 (oc), 8 ISET (in), 9 TS (in), 10 BATT (in), 11 DAP (power)

## LM3658SDX-B/NOPB
designator U?
Dual Source USB/AC Li Chemistry Charger IC for Portable Applications, 10-pin LLP, Pb-Free; PartNumber: LM3658SDX-B/NOPB; Manufacturer: National Semiconductor; PackageTopMarking: ZXYTT*L156B; PowerWise: N; CompType: MiscPower; High-Reliability: Y; DatasheetVersion: Nov-2006; PackageVersion: revA, Oct-2003; PackageReference: SDA10A; PackageDescription: LLP, Plastic, Dual, 3 x 3 x 0.8mm Body, 10 Lead, 0.5mm Pitch, No Pullback; RoHS: Y; PinCount: 10; ComponentLink1Description: Manufacturer URL; ComponentLink1URL: http://www.national.com/; ComponentLink2Description: LM3658 Datasheet; ComponentLink2URL: http://www.national.com/ds/LM/LM3658.pdf; ComponentLink3Description: LM3658 Web Page; ComponentLink3URL: http://www.national.com/pf/LM/LM3658.html; ComponentLink4Description: SDA10A Package Page; ComponentLink4URL: http://www.national.com/packaging/folders/sda10a.html
footprint SDA10A (SON, 10-Leads, Body 3x3 mm, Pitch 0.5mm, NSC Recommended)
pins: 1 CHG_IN (in), 2 USBPWR (in), 3 GND (power), 4 USB_SEL (in), 5 EN_B (in), 6 STAT2 (oc), 7 STAT1 (oc), 8 ISET (in), 9 TS (in), 10 BATT (in), 11 DAP (power)

## LM3658SDX/NOPB
designator U?
Dual Source USB/AC Li Chemistry Charger IC for Portable Applications, 10-pin LLP, Pb-Free; PartNumber: LM3658SDX/NOPB; Manufacturer: National Semiconductor; PackageTopMarking: ZXYTT*L111B; PowerWise: N; CompType: MiscPower; High-Reliability: Y; DatasheetVersion: Nov-2006; PackageVersion: revA, Oct-2003; PackageReference: SDA10A; PackageDescription: LLP, Plastic, Dual, 3 x 3 x 0.8mm Body, 10 Lead, 0.5mm Pitch, No Pullback; RoHS: Y; PinCount: 10; ComponentLink1Description: Manufacturer URL; ComponentLink1URL: http://www.national.com/; ComponentLink2Description: LM3658 Datasheet; ComponentLink2URL: http://www.national.com/ds/LM/LM3658.pdf; ComponentLink3Description: LM3658 Web Page; ComponentLink3URL: http://www.national.com/pf/LM/LM3658.html; ComponentLink4Description: SDA10A Package Page; ComponentLink4URL: http://www.national.com/packaging/folders/sda10a.html
footprint SDA10A (SON, 10-Leads, Body 3x3 mm, Pitch 0.5mm, NSC Recommended)
pins: 1 CHG_IN (in), 2 USBPWR (in), 3 GND (power), 4 USB_SEL (in), 5 EN_B (in), 6 STAT2 (oc), 7 STAT1 (oc), 8 ISET (in), 9 TS (in), 10 BATT (in), 11 DAP (power)